# EAGLE library part 750314783 (library WE-POE+)
WE-PoE+ Power over Ethernet Plus Transformer Characteristics Designed to meet 30 W PoE+ objectives of IEEE802.3at Frequency range: 250–400 kHz Input voltage range: 36–72 V 1.5 kV Hipot test between primary and secondary Operating temperature: –40 °C to +125 °C (incl. self-heating) Applications PoE+ powered devices IP Phones WLAN Access Points Security cameras <https://www.we-online.com/components/media/o14840v209%20Family_WE-POE%2B.jpg> Details see: www.we-online.com/en/components/products/WE-POE-PLUS <www.we-online.com/catalog/WE-POE-PLUS/?utm_source=eagle_model&utm_medium=description_link&utm_campaign=eisos_eagle> Updated by Ella 2024-01-29 2024(C) Wurth Elektronik
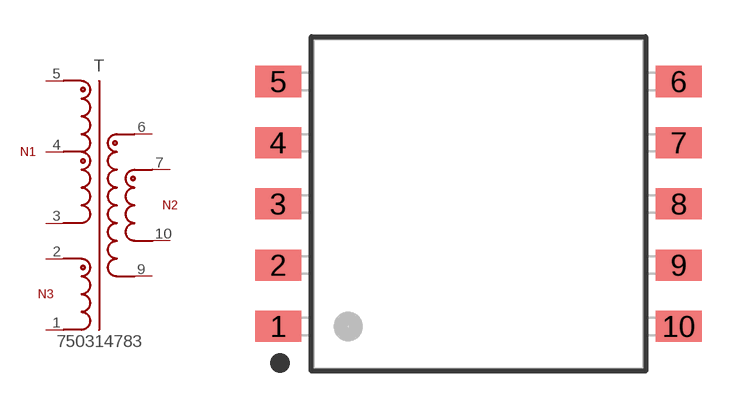
[diagram p13: symbol with the pads of WE-POE+_EP13_PADL1.88W1.17; footprint WE-POE+_EP13_PADL1.88W1.17]

Designator prefix T

## 750314783 (DATASHEET-URL: https://www.we-online.com/redexpert/spec/750314783?ae; IO1: 7A; ISAT: 3.8A; L: 26uH; LS: 800nH; N: 4.5:1:2.5; PART-NUMBER: 750314783; SIZE: EP13; VALUE: 750314783; VAUX: 12V; VIN: 48 - 57 V (DC); VO1: 5V; VT: 2400V(AC))  [WE-POE+_EP13_PADL1.88W1.17]
1  1  pas
2  2  pas
3  3  pas
4  4  pas
5  5  pas
6  6  pas
7  7  pas
9  9  pas
10  10  pas

## Footprint WE-POE+_EP13_PADL1.88W1.17 (pad centres in mm)
WE-PoE Power over Ethernet Transformer EP13, SMT, 10Pins
smd 1.88 x 1.27: 1 -8.18,-5; 2 -8.18,-2.5; 3 -8.18,0; 4 -8.18,2.5; 5 -8.18,5; 6 8.18,5; 7 8.18,2.5; 8 8.18,0; 9 8.18,-2.5; 10 8.18,-5